# EAGLE library part THROUHOLE18 (library pinhead-half-pitch)
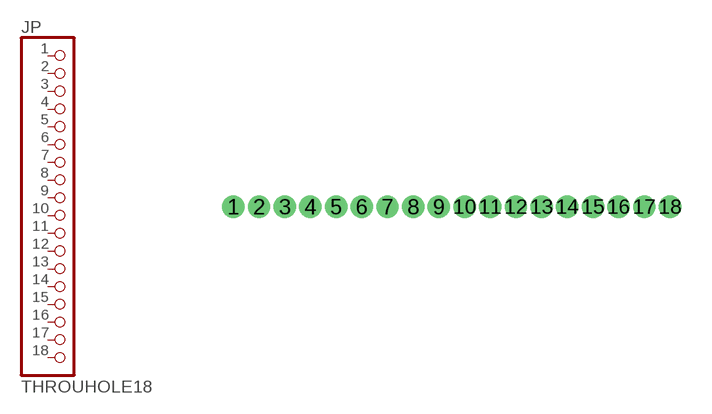
[diagram p2: symbol with the pads of THROUHOLE18; footprint THROUHOLE18]

Designator prefix JP

## THROUHOLE18  [THROUHOLE18]
1  1  pas
2  2  pas
3  3  pas
4  4  pas
5  5  pas
6  6  pas
7  7  pas
8  8  pas
9  9  pas
10  10  pas
11  11  pas
12  12  pas
13  13  pas
14  14  pas
15  15  pas
16  16  pas
17  17  pas
18  18  pas

## Footprint THROUHOLE18 (pad centres in mm)
drill 0.6: 1 -10.795,0; 2 -9.525,0; 3 -8.255,0; 4 -6.985,0; 5 -5.715,0; 6 -4.445,0; 7 -3.175,0; 8 -1.905,0; 9 -0.635,0; 10 0.635,0; 11 1.905,0; 12 3.175,0; 13 4.445,0; 14 5.715,0; 15 6.985,0; 16 8.255,0; 17 9.525,0; 18 10.795,0